# Altium footprint library USB.PcbLib: 2 footprints
Each footprint in its own frame and in the unit in brackets; x right, y up, seen from the top. Pads: shape width x height; smd on the part's side, far side on the other; paste and mask are expansions set on the pad; w line width, h text height; cw(c..) or ccw(c..) is an arc to the next point about the centre after c.
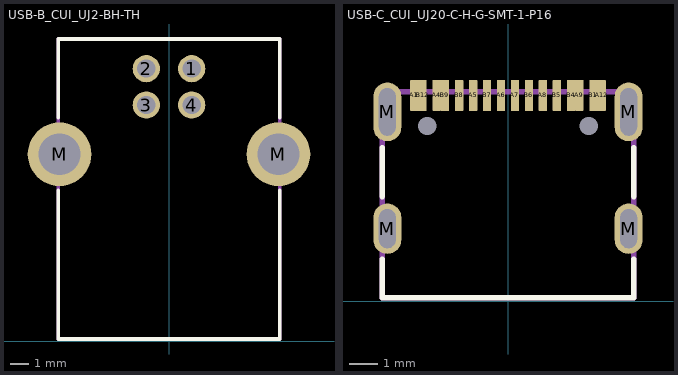
[diagram p0: the footprints below, top view; thin cyan lines are the x and y axes]

## USB-B_CUI_UJ2-BH-TH [mm]
pads (6):
  round 1.5 hole 1: 1(1.25,14.99) 2(-1.25,14.99) 3(-1.25,12.99) 4(1.25,12.99)
  round 3.5 hole 2.3: M(-6.02,10.28) M(6.02,10.28)
Top Overlay:
  lines w0.2: -6.1,8.3 -6.1,0.12 6.1,0.12 6.1,8.3 ; -6.1,12.3 -6.1,16.62 6.1,16.62 6.1,12.3
Top Assembly:
  lines w0.2: -6.1,0.12 6.1,0.12 6.1,16.62 -6.1,16.62 -6.1,0.12
3D body: height 1.75, standoff -1.75, extent -7.5,9.28 -5.8,11.28
3D body: height 1.75, standoff -1.75, extent 5.8,9.28 7.5,11.28
3D body: height 10.81, standoff 0.31, extent -6.1,0.12 6.1,10.28
3D body: height 6.4, standoff 3.43, extent -3,0.12 3,10.28
3D body: height 7.41, standoff -2.79, extent 0.925,0.62 1.575,15.09
3D body: height 0.3, standoff 0, extent -4.5,6.52 -3.5,16.62
3D body: height 0.3, standoff 0, extent 3.5,6.52 4.5,16.62
3D body: height 0.3, standoff 0, extent -0.5,8.82 0.5,16.62
3D body: height 10.8, standoff 0.3, extent -6.1,10.28 6.1,16.62
3D body: height 7.41, standoff -2.79, extent -1.575,0.62 -0.925,15.09
3D body: height 3.61, standoff -2.79, extent -1.575,0.62 -0.925,13.09
3D body: height 3.61, standoff -2.79, extent 0.925,0.62 1.575,13.09

## USB-C_CUI_UJ20-C-H-G-SMT-1-P16 [mm]
pads (22):
  rrect10% 0.3x1.1 smd: A1(-3.35,7.37) A4(-2.55,7.37) A5(-1.25,7.37) A6(-0.25,7.37) A7(0.25,7.37) A8(1.25,7.37) A9(2.55,7.37) A12(3.35,7.37) B1(3.06,7.37) B4(2.26,7.37) B5(1.75,7.37) B6(0.75,7.37) B7(-0.75,7.37) B8(-1.75,7.37) B9(-2.26,7.37) B12(-3.06,7.37)
  oval 1x1.8 hole 0.6 slot 1.4 at 90 deg: M(-4.32,2.6) M(4.32,2.6)
  oval 1x2.1 hole 0.6 slot 1.7 at 90 deg: M(-4.32,6.78) M(4.32,6.78)
  round 0 hole 0.65 unplated: ""(-2.89,6.28) ""(2.89,6.28)
Top Overlay:
  lines w0.2: -4.5,1.5 -4.5,0.12 4.5,0.12 4.5,1.5 ; -4.5,3.75 -4.5,5.5 ; 4.5,3.75 4.5,5.5
Top Assembly:
  lines w0.2: -4.5,0.12 -4.5,7.5 4.5,7.5 4.5,0.12 -4.5,0.12
3D body "USB_C.stp": height 3.26, standoff -1.1, extent -4.47,0 4.47,7.67